# EAGLE library part LM358 (library icmi-ics)
M358 - Low Power Dual Operational Amplifiers The LM358 series consists of two independent, high gain, internally frequency compensated operational amplifiers which were designed specifically to operate from a single power supply over a wide range of voltages. Operation from split power supplies is also possible and the low power supply current drain is independent of the magnitude of the power supply voltage.
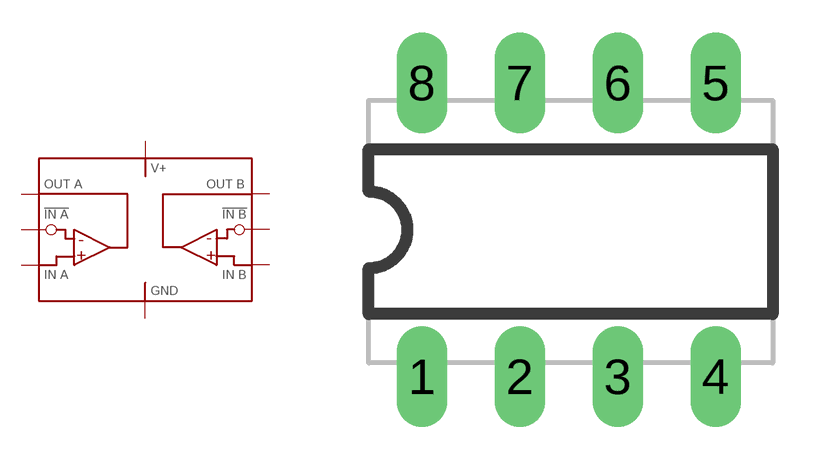
[diagram p7: symbol with the pads of DIP-8; footprint DIP-8]

Designator prefix -

## LM358-DIP8  [DIP-8]
1  A  out
2  IIA  in
3  IA  in
4  GND  pwr
5  IB  in
6  IIB  in
7  B  out
8  V+  pwr

## Footprint DIP-8 (pad centres in mm)
DIP-8 throughole package
drill 0.8 long: 1 -3.81,-3.81; 2 -1.27,-3.81; 3 1.27,-3.81; 4 3.81,-3.81; 5 3.81,3.81; 6 1.27,3.81; 7 -1.27,3.81; 8 -3.81,3.81